# Altium schematic symbol library SCH - DIODES - ESD Diode.Schlib: 1 symbol
Pins are listed as number, name and electrical type; pins without a type are passive.

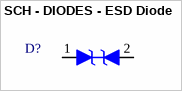
[diagram p0: symbol SCH - DIODES - ESD Diode]

## SCH - DIODES - ESD Diode
designator D?
footprint SOD-923_0.8x0.6x0.7 (ESD Diode SOD-923 package)
pins: 1, 2